# Altium footprint library diy-modules.PCBLIB: 111 footprints (part 7 of 7)
Each footprint in its own frame and in the unit in brackets; x right, y up, seen from the top. Pads: shape width x height; smd on the part's side, far side on the other; paste and mask are expansions set on the pad; w line width, h text height; cw(c..) or ccw(c..) is an arc to the next point about the centre after c.
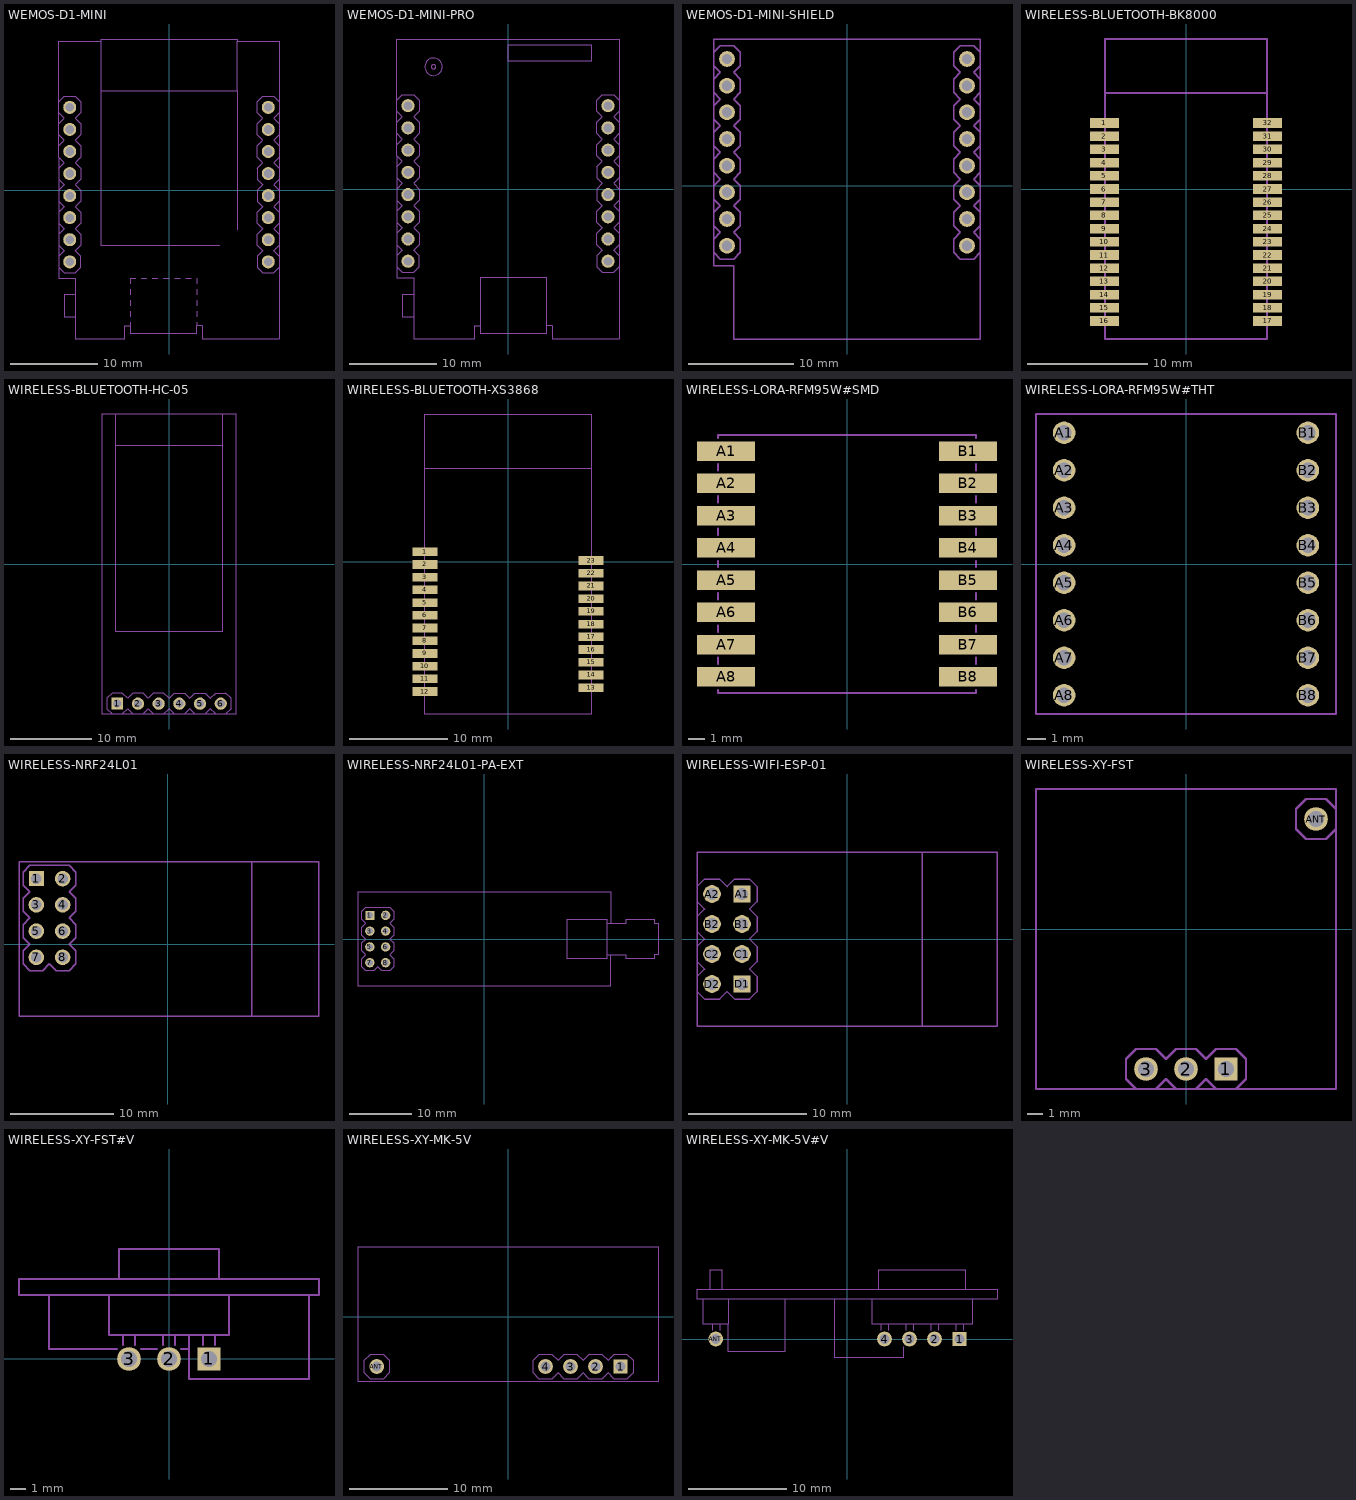
[diagram p6: the footprints below, top view; thin cyan lines are the x and y axes]

## WEMOS-D1-MINI [mm]
pads (16):
  round 1.5 / inner round 1.524 / far side round 1.5 hole 1: JP1.1(-11.43,9.525) JP1.2(-11.43,6.985) JP1.3(-11.43,4.445) JP1.4(-11.43,1.905) JP1.5(-11.43,-0.635) JP1.6(-11.43,-3.175) JP1.7(-11.43,-5.715) JP1.8(-11.43,-8.255) JP2.1(11.43,9.525) JP2.2(11.43,6.985) JP2.3(11.43,4.445) JP2.4(11.43,1.905) JP2.5(11.43,-0.635) JP2.6(11.43,-3.175) JP2.7(11.43,-5.715) JP2.8(11.43,-8.255)
Mechanical 22:
  lines w0.127: -12.7,-8.89 -12.065,-9.525 -10.795,-9.525 -10.16,-8.89 -10.16,-7.62 -10.795,-6.985 -10.16,-6.35 -10.16,-5.08 -10.795,-4.445 -10.16,-3.81 -10.16,-2.54 -10.795,-1.905 -10.16,-1.27 -10.16,0 -10.795,0.635 -10.16,1.27 -10.16,2.54 -10.795,3.175 -10.16,3.81 -10.16,5.08 -10.795,5.715 -10.16,6.35 -10.16,7.62 -10.795,8.255 -10.16,8.89 -10.16,10.16 -10.795,10.795 -12.065,10.795 -12.7,10.16 ; -12.7,-7.62 -12.065,-6.985 -12.7,-6.35 ; -12.7,-5.08 -12.065,-4.445 -12.7,-3.81 ; -12.7,-2.54 -12.065,-1.905 -12.7,-1.27 ; -12.7,0 -12.065,0.635 -12.7,1.27 ; -12.7,2.54 -12.065,3.175 -12.7,3.81 ; -4.445,-15.24 -4.445,-15.621 ; -4.445,-14.605 -4.445,-13.97 ; -4.445,-13.335 -4.445,-12.7 ; -4.445,-12.065 -4.445,-11.43 ; -4.445,-10.795 -4.445,-10.16 -3.81,-10.16 ; -3.175,-10.16 -2.54,-10.16 ; -1.905,-10.16 -1.27,-10.16 ; -0.635,-10.16 0,-10.16 ; 0.635,-10.16 1.27,-10.16 ; 1.905,-10.16 2.54,-10.16 ; 3.175,-15.24 3.175,-15.621 ; 3.175,-14.605 3.175,-13.97 ; 3.175,-13.335 3.175,-12.7 ; 3.175,-12.065 3.175,-11.43 ; 3.175,-10.795 3.175,-10.16 ; 5.842,-6.35 -7.874,-6.35 -7.874,11.43 ; 7.874,-4.572 7.874,11.43 ; 12.7,-8.89 12.065,-9.525 10.795,-9.525 10.16,-8.89 10.16,-7.62 10.795,-6.985 10.16,-6.35 10.16,-5.08 10.795,-4.445 10.16,-3.81 10.16,-2.54 10.795,-1.905 10.16,-1.27 10.16,0 10.795,0.635 10.16,1.27 10.16,2.54 10.795,3.175 10.16,3.81 10.16,5.08 10.795,5.715 10.16,6.35 10.16,7.62 10.795,8.255 10.16,8.89 10.16,10.16 10.795,10.795 12.065,10.795 12.7,10.16 ; 12.7,-7.62 12.065,-6.985 12.7,-6.35 ; 12.7,-5.08 12.065,-4.445 12.7,-3.81 ; 12.7,-2.54 12.065,-1.905 12.7,-1.27 ; 12.7,0 12.065,0.635 12.7,1.27 ; 12.7,2.54 12.065,3.175 12.7,3.81 ; -12.7,3.81 -12.7,5.08 ; -12.7,3.81 -12.7,-10.16 -10.795,-10.16 -10.795,-12.065 ; -12.7,5.08 -12.7,6.35 ; -12.7,5.08 -12.065,5.715 -12.7,6.35 ; -12.7,6.35 -12.7,7.62 ; -12.7,7.62 -12.7,8.89 ; -12.7,7.62 -12.065,8.255 -12.7,8.89 ; -12.7,8.89 -12.7,10.16 ; -12.7,10.16 -12.7,17.145 -7.874,17.145 ; -10.795,-14.605 -10.795,-12.065 ; -10.795,-14.605 -10.795,-17.145 -5.08,-17.145 -5.08,-15.621 -4.445,-15.621 ; -10.795,-14.605 -12.065,-14.605 -12.065,-12.065 -10.795,-12.065 ; -7.874,11.43 -7.874,17.145 ; -7.874,11.43 7.874,11.43 ; -7.874,17.145 -7.874,17.399 7.874,17.399 7.874,17.145 ; -4.445,-15.621 -4.445,-16.51 3.175,-16.51 3.175,-15.621 ; 3.175,-15.621 3.81,-15.621 3.81,-17.145 12.7,-17.145 12.7,3.81 ; 7.874,11.43 7.874,17.145 ; 7.874,17.145 12.7,17.145 12.7,10.16 ; 12.7,3.81 12.7,5.08 ; 12.7,5.08 12.7,6.35 ; 12.7,5.08 12.065,5.715 12.7,6.35 ; 12.7,6.35 12.7,7.62 ; 12.7,7.62 12.7,8.89 ; 12.7,7.62 12.065,8.255 12.7,8.89 ; 12.7,8.89 12.7,10.16

## WEMOS-D1-MINI-PRO [mm]
pads (16):
  round 1.5 / inner round 1.524 / far side round 1.5 hole 1: JP1.1(-11.43,9.525) JP1.2(-11.43,6.985) JP1.3(-11.43,4.445) JP1.4(-11.43,1.905) JP1.5(-11.43,-0.635) JP1.6(-11.43,-3.175) JP1.7(-11.43,-5.715) JP1.8(-11.43,-8.255) JP2.1(11.43,9.525) JP2.2(11.43,6.985) JP2.3(11.43,4.445) JP2.4(11.43,1.905) JP2.5(11.43,-0.635) JP2.6(11.43,-3.175) JP2.7(11.43,-5.715) JP2.8(11.43,-8.255)
Mechanical 22:
  circle w0.127: c-8.509,13.97 r0.25
  circle w0.127: c-8.509,13.97 r1
  lines w0.127: -12.7,-8.89 -12.065,-9.525 -10.795,-9.525 -10.16,-8.89 -10.16,-7.62 -10.795,-6.985 -10.16,-6.35 -10.16,-5.08 -10.795,-4.445 -10.16,-3.81 -10.16,-2.54 -10.795,-1.905 -10.16,-1.27 -10.16,0 -10.795,0.635 -10.16,1.27 -10.16,2.54 -10.795,3.175 -10.16,3.81 -10.16,5.08 -10.795,5.715 -10.16,6.35 -10.16,7.62 -10.795,8.255 -10.16,8.89 -10.16,10.16 -10.795,10.795 -12.065,10.795 -12.7,10.16 ; -12.7,-7.62 -12.065,-6.985 -12.7,-6.35 ; -12.7,-5.08 -12.065,-4.445 -12.7,-3.81 ; -12.7,-2.54 -12.065,-1.905 -12.7,-1.27 ; -12.7,0 -12.065,0.635 -12.7,1.27 ; -12.7,2.54 -12.065,3.175 -12.7,3.81 ; 12.7,-8.89 12.065,-9.525 10.795,-9.525 10.16,-8.89 10.16,-7.62 10.795,-6.985 10.16,-6.35 10.16,-5.08 10.795,-4.445 10.16,-3.81 10.16,-2.54 10.795,-1.905 10.16,-1.27 10.16,0 10.795,0.635 10.16,1.27 10.16,2.54 10.795,3.175 10.16,3.81 10.16,5.08 10.795,5.715 10.16,6.35 10.16,7.62 10.795,8.255 10.16,8.89 10.16,10.16 10.795,10.795 12.065,10.795 12.7,10.16 ; 12.7,-7.62 12.065,-6.985 12.7,-6.35 ; 12.7,-5.08 12.065,-4.445 12.7,-3.81 ; 12.7,-2.54 12.065,-1.905 12.7,-1.27 ; 12.7,0 12.065,0.635 12.7,1.27 ; 12.7,2.54 12.065,3.175 12.7,3.81 ; -12.7,3.81 -12.7,5.08 ; -12.7,3.81 -12.7,-10.16 -10.795,-10.16 -10.795,-12.065 ; -12.7,5.08 -12.7,6.35 ; -12.7,5.08 -12.065,5.715 -12.7,6.35 ; -12.7,6.35 -12.7,7.62 ; -12.7,7.62 -12.7,8.89 ; -12.7,7.62 -12.065,8.255 -12.7,8.89 ; -12.7,8.89 -12.7,10.16 ; -12.7,10.16 -12.7,17.145 12.7,17.145 12.7,10.16 ; -10.795,-14.605 -10.795,-12.065 ; -10.795,-14.605 -10.795,-17.145 -3.81,-17.145 -3.81,-15.621 -3.175,-15.621 ; -10.795,-14.605 -12.065,-14.605 -12.065,-12.065 -10.795,-12.065 ; -3.175,-15.621 -3.175,-10.16 4.445,-10.16 4.445,-15.621 ; -3.175,-15.621 -3.175,-16.51 4.445,-16.51 4.445,-15.621 ; 4.445,-15.621 5.08,-15.621 5.08,-17.145 12.7,-17.145 12.7,3.81 ; 12.7,3.81 12.7,5.08 ; 12.7,5.08 12.7,6.35 ; 12.7,5.08 12.065,5.715 12.7,6.35 ; 12.7,6.35 12.7,7.62 ; 12.7,7.62 12.7,8.89 ; 12.7,7.62 12.065,8.255 12.7,8.89 ; 12.7,8.89 12.7,10.16 ; 0,14.605 9.525,14.605 9.525,16.51 0,16.51 0,14.605

## WEMOS-D1-MINI-SHIELD [mm]
pads (16):
  round 1.5 / inner round 1.524 / far side round 1.5 hole 1: JP1.1(-11.43,12.065) JP1.2(-11.43,9.525) JP1.3(-11.43,6.985) JP1.4(-11.43,4.445) JP1.5(-11.43,1.905) JP1.6(-11.43,-0.635) JP1.7(-11.43,-3.175) JP1.8(-11.43,-5.715) JP2.1(11.43,12.065) JP2.2(11.43,9.525) JP2.3(11.43,6.985) JP2.4(11.43,4.445) JP2.5(11.43,1.905) JP2.6(11.43,-0.635) JP2.7(11.43,-3.175) JP2.8(11.43,-5.715)
Mechanical 22:
  lines w0.127: -12.7,-6.35 -12.065,-6.985 -10.795,-6.985 -10.16,-6.35 -10.16,-5.08 -10.795,-4.445 -10.16,-3.81 -10.16,-2.54 -10.795,-1.905 -10.16,-1.27 -10.16,0 -10.795,0.635 -10.16,1.27 -10.16,2.54 -10.795,3.175 -10.16,3.81 -10.16,5.08 -10.795,5.715 -10.16,6.35 -10.16,7.62 -10.795,8.255 -10.16,8.89 -10.16,10.16 -10.795,10.795 -10.16,11.43 -10.16,12.7 -10.795,13.335 -12.065,13.335 -12.7,12.7 ; -12.7,-5.08 -12.065,-4.445 -12.7,-3.81 ; -12.7,-2.54 -12.065,-1.905 -12.7,-1.27 ; -12.7,0 -12.065,0.635 -12.7,1.27 ; -12.7,2.54 -12.065,3.175 -12.7,3.81 ; -12.7,5.08 -12.065,5.715 -12.7,6.35 ; 12.7,-6.35 12.065,-6.985 10.795,-6.985 10.16,-6.35 10.16,-5.08 10.795,-4.445 10.16,-3.81 10.16,-2.54 10.795,-1.905 10.16,-1.27 10.16,0 10.795,0.635 10.16,1.27 10.16,2.54 10.795,3.175 10.16,3.81 10.16,5.08 10.795,5.715 10.16,6.35 10.16,7.62 10.795,8.255 10.16,8.89 10.16,10.16 10.795,10.795 10.16,11.43 10.16,12.7 10.795,13.335 12.065,13.335 12.7,12.7 ; 12.7,-5.08 12.065,-4.445 12.7,-3.81 ; 12.7,-2.54 12.065,-1.905 12.7,-1.27 ; 12.7,0 12.065,0.635 12.7,1.27 ; 12.7,2.54 12.065,3.175 12.7,3.81 ; 12.7,5.08 12.065,5.715 12.7,6.35 ; -12.7,6.35 -12.7,7.62 ; -12.7,6.35 -12.7,-7.62 -10.795,-7.62 -10.795,-14.605 12.7,-14.605 12.7,6.35 ; -12.7,7.62 -12.7,8.89 ; -12.7,7.62 -12.065,8.255 -12.7,8.89 ; -12.7,8.89 -12.7,10.16 ; -12.7,10.16 -12.7,11.43 ; -12.7,10.16 -12.065,10.795 -12.7,11.43 ; -12.7,11.43 -12.7,12.7 ; -12.7,12.7 -12.7,13.97 12.7,13.97 12.7,12.7 ; 12.7,6.35 12.7,7.62 ; 12.7,7.62 12.7,8.89 ; 12.7,7.62 12.065,8.255 12.7,8.89 ; 12.7,8.89 12.7,10.16 ; 12.7,10.16 12.7,11.43 ; 12.7,10.16 12.065,10.795 12.7,11.43 ; 12.7,11.43 12.7,12.7

## WIRELESS-BLUETOOTH-BK8000 [mil]
pads (32):
  rect 94.49x31.5 smd: 1(-267.72,216.54) 2(-267.72,173.23) 3(-267.72,129.92) 4(-267.72,86.61) 5(-267.72,43.31) 6(-267.72,0) 7(-267.72,-43.31) 8(-267.72,-86.61) 9(-267.72,-129.92) 10(-267.72,-173.23) 11(-267.72,-216.54) 12(-267.72,-259.84) 13(-267.72,-303.15) 14(-267.72,-346.46) 15(-267.72,-389.76) 16(-267.72,-433.07) 17(267.72,-433.07) 18(267.72,-389.76) 19(267.72,-346.46) 20(267.72,-303.15) 21(267.72,-259.84) 22(267.72,-216.54) 23(267.72,-173.23) 24(267.72,-129.92) 25(267.72,-86.61) 26(267.72,-43.31) 27(267.72,0) 28(267.72,43.31) 29(267.72,86.61) 30(267.72,129.92) 31(267.72,173.23) 32(267.72,216.54)
Mechanical 22:
  lines w5: -265.75,314.96 -265.75,-492.13 265.75,-492.13 265.75,314.96 ; -265.75,314.96 -265.75,492.13 265.75,492.13 265.75,314.96 ; -265.75,314.96 265.75,314.96

## WIRELESS-BLUETOOTH-HC-05 [mm]
pads (6):
  rect 1.452x1.452 / inner rect 1.524x1.524 / far side rect 1.452x1.452 hole 1: 1(-6.35,-17.145)
  round 1.5 / inner round 1.524 / far side round 1.5 hole 1: 2(-3.81,-17.145) 3(-1.27,-17.145) 4(1.27,-17.145) 5(3.81,-17.145) 6(6.35,-17.145)
Mechanical 22:
  lines w0.127: 0.635,-18.415 0,-17.78 -0.635,-18.415 ; 1.905,-18.415 2.54,-17.78 3.175,-18.415 ; 4.445,-18.415 5.08,-17.78 5.715,-18.415 ; 6.985,-18.415 7.62,-17.78 7.62,-16.51 6.985,-15.875 5.715,-15.875 5.08,-16.51 4.445,-15.875 3.175,-15.875 2.54,-16.51 1.905,-15.875 0.635,-15.875 0,-16.51 -0.635,-15.875 -1.905,-15.875 -2.54,-16.51 -3.175,-15.875 -4.445,-15.875 -5.08,-16.51 -5.715,-15.875 -6.985,-15.875 -7.62,-16.51 -7.62,-17.78 -6.985,-18.415 ; -6.985,-18.415 -8.255,-18.415 -8.255,18.415 -6.604,18.415 ; -6.985,-18.415 -5.715,-18.415 ; -6.604,14.605 -6.604,18.415 ; -6.604,14.605 -6.604,-8.255 6.604,-8.255 6.604,14.605 ; -6.604,14.605 6.604,14.605 ; -6.604,18.415 6.604,18.415 ; -5.715,-18.415 -4.445,-18.415 ; -5.715,-18.415 -5.08,-17.78 -4.445,-18.415 ; -4.445,-18.415 -3.175,-18.415 ; -3.175,-18.415 -1.905,-18.415 ; -3.175,-18.415 -2.54,-17.78 -1.905,-18.415 ; -1.905,-18.415 -0.635,-18.415 ; -0.635,-18.415 8.255,-18.415 8.255,18.415 6.604,18.415 ; 6.604,14.605 6.604,18.415

## WIRELESS-BLUETOOTH-XS3868 [mil]
pads (23):
  rect 100x35 smd: 1(-334.65,39.17) 2(-334.65,-12.01) 3(-334.65,-63.19) 4(-334.65,-114.37) 5(-334.65,-165.55) 6(-334.65,-216.73) 7(-334.65,-267.91) 8(-334.65,-319.09) 9(-334.65,-370.28) 10(-334.65,-421.46) 11(-334.65,-472.64) 12(-334.65,-523.82) 13(334.65,-508.07) 14(334.65,-456.89) 15(334.65,-405.71) 16(334.65,-354.53) 17(334.65,-303.35) 18(334.65,-252.17) 19(334.65,-200.98) 20(334.65,-149.8) 21(334.65,-98.62) 22(334.65,-47.44) 23(334.65,3.74)
Mechanical 22:
  lines w5: -334.65,375 -334.65,-614.37 334.65,-614.37 334.65,375 ; -334.65,375 -334.65,594.29 334.65,594.29 334.65,375 ; -334.65,375 334.65,375

## WIRELESS-LORA-RFM95W#SMD [mm]
pads (16):
  rect 3.6x1.2 smd: A1(-7.5,7) A2(-7.5,5) A3(-7.5,3) A4(-7.5,1) A5(-7.5,-1) A6(-7.5,-3) A7(-7.5,-5) A8(-7.5,-7) B1(7.5,7) B2(7.5,5) B3(7.5,3) B4(7.5,1) B5(7.5,-1) B6(7.5,-3) B7(7.5,-5) B8(7.5,-7)
Mechanical 22:
  lines w0.127: -8,-7.8 -8,-8 8,-8 8,-7.8 ; -8,-6.2 -8,-5.8 ; -8,-4.2 -8,-3.8 ; -8,-2.2 -8,-1.8 ; -8,-0.2 -8,0.2 ; -8,1.8 -8,2.2 ; -8,3.8 -8,4.2 ; -8,5.8 -8,6.2 ; -8,7.8 -8,8 8,8 8,7.8 ; 8,-6.2 8,-5.8 ; 8,-4.2 8,-3.8 ; 8,-2.2 8,-1.8 ; 8,-0.2 8,0.2 ; 8,1.8 8,2.2 ; 8,3.8 8,4.2 ; 8,5.8 8,6.2

## WIRELESS-LORA-RFM95W#THT [mil]
pads (16):
  round 47.25 / inner round 60 / far side round 47.25 hole 31.5: A1(-255.91,275.59) A2(-255.91,196.85) A3(-255.91,118.11) A4(-255.91,39.37) A5(-255.91,-39.37) A6(-255.91,-118.11) A7(-255.91,-196.85) A8(-255.91,-275.59) B1(255.91,275.59) B2(255.91,196.85) B3(255.91,118.11) B4(255.91,39.37) B5(255.91,-39.37) B6(255.91,-118.11) B7(255.91,-196.85) B8(255.91,-275.59)
Mechanical 22:
  lines w5: -314.96,-314.96 314.96,-314.96 314.96,314.96 -314.96,314.96 -314.96,-314.96

## WIRELESS-NRF24L01 [mm]
pads (8):
  rect 1.452x1.452 / inner rect 1.524x1.524 / far side rect 1.452x1.452 hole 1: 1(-12.7,6.35)
  round 1.5 / inner round 1.524 / far side round 1.5 hole 1: 2(-10.16,6.35) 3(-12.7,3.81) 4(-10.16,3.81) 5(-12.7,1.27) 6(-10.16,1.27) 7(-12.7,-1.27) 8(-10.16,-1.27)
Mechanical 22:
  lines w0.127: 8.128,-6.985 14.63,-6.985 14.63,8.001 8.128,8.001 ; 8.128,-6.985 -14.376,-6.985 -14.376,8.001 8.128,8.001 ; 8.128,-6.985 8.128,8.001 ; -13.97,-1.905 -13.335,-2.54 -12.065,-2.54 -11.43,-1.905 -10.795,-2.54 -9.525,-2.54 -8.89,-1.905 -8.89,-0.635 -9.525,0 -8.89,0.635 -8.89,1.905 -9.525,2.54 -8.89,3.175 -8.89,4.445 -9.525,5.08 -8.89,5.715 -8.89,6.985 -9.525,7.62 -13.335,7.62 -13.97,6.985 -13.97,5.715 -13.335,5.08 -13.97,4.445 -13.97,3.175 -13.335,2.54 -13.97,1.905 -13.97,0.635 -13.335,0 -13.97,-0.635 -13.97,-1.905

## WIRELESS-NRF24L01-PA-EXT [mm]
pads (8):
  rect 1.452x1.452 / inner rect 1.524x1.524 / far side rect 1.452x1.452 hole 1: 1(-18.415,3.81)
  round 1.5 / inner round 1.524 / far side round 1.5 hole 1: 2(-15.875,3.81) 3(-18.415,1.27) 4(-15.875,1.27) 5(-18.415,-1.27) 6(-15.875,-1.27) 7(-18.415,-3.81) 8(-15.875,-3.81)
Mechanical 22:
  lines w0.127: 19.685,-2.54 19.685,2.54 ; 19.685,-2.54 19.685,-3.175 13.335,-3.175 13.335,3.175 19.685,3.175 19.685,2.54 ; 19.685,-2.54 20.32,-2.54 ; 19.685,2.54 20.32,2.54 ; 20.32,-2.54 22.86,-2.54 22.86,-3.175 27.305,-3.175 27.305,-2.54 27.94,-2.54 27.94,2.54 27.305,2.54 27.305,3.175 22.86,3.175 22.86,2.54 20.32,2.54 ; 20.32,-2.54 20.32,-7.62 -20.32,-7.62 -20.32,7.62 20.32,7.62 20.32,2.54 ; -19.685,-4.445 -19.05,-5.08 -17.78,-5.08 -17.145,-4.445 -16.51,-5.08 -15.24,-5.08 -14.605,-4.445 -14.605,-3.175 -15.24,-2.54 -14.605,-1.905 -14.605,-0.635 -15.24,0 -14.605,0.635 -14.605,1.905 -15.24,2.54 -14.605,3.175 -14.605,4.445 -15.24,5.08 -19.05,5.08 -19.685,4.445 -19.685,3.175 -19.05,2.54 -19.685,1.905 -19.685,0.635 -19.05,0 -19.685,-0.635 -19.685,-1.905 -19.05,-2.54 -19.685,-3.175 -19.685,-4.445

## WIRELESS-WIFI-ESP-01 [mm]
pads (8):
  rect 1.452x1.452 / inner rect 1.524x1.524 / far side rect 1.452x1.452 hole 1: A1(-8.89,3.81) D1(-8.89,-3.81)
  round 1.5 / inner round 1.524 / far side round 1.5 hole 1: A2(-11.43,3.81) B1(-8.89,1.27) B2(-11.43,1.27) C1(-8.89,-1.27) C2(-11.43,-1.27) D2(-11.43,-3.81)
Mechanical 22:
  lines w0.127: -12.7,-4.445 -12.7,-7.366 6.35,-7.366 ; -12.7,-4.445 -12.7,-3.175 ; -12.7,-4.445 -12.065,-5.08 -10.795,-5.08 -10.16,-4.445 -9.525,-5.08 -8.255,-5.08 -7.62,-4.445 -7.62,-3.175 -8.255,-2.54 -7.62,-1.905 -7.62,-0.635 -8.255,0 -7.62,0.635 -7.62,1.905 -8.255,2.54 -7.62,3.175 -7.62,4.445 -8.255,5.08 -9.525,5.08 -10.16,4.445 -10.795,5.08 -12.065,5.08 -12.7,4.445 ; -12.7,-3.175 -12.7,-1.905 ; -12.7,-3.175 -12.065,-2.54 -12.7,-1.905 ; -12.7,-1.905 -12.7,-0.635 ; -12.7,-0.635 -12.7,0.635 ; -12.7,-0.635 -12.065,0 -12.7,0.635 ; -12.7,0.635 -12.7,1.905 ; -12.7,1.905 -12.7,3.175 ; -12.7,1.905 -12.065,2.54 -12.7,3.175 ; -12.7,3.175 -12.7,4.445 ; -12.7,4.445 -12.7,7.366 6.35,7.366 ; 6.35,-7.366 12.7,-7.366 12.7,7.366 6.35,7.366 ; 6.35,-7.366 6.35,7.366

## WIRELESS-XY-FST [mm]
pads (4):
  rect 1.452x1.452 / inner rect 1.524x1.524 / far side rect 1.452x1.452 hole 1: 1(2.54,-8.89)
  round 1.5 / inner round 1.524 / far side round 1.5 hole 1: 2(0,-8.89) 3(-2.54,-8.89) ANT(8.255,6.985)
Mechanical 22:
  lines w0.127: -3.175,-10.16 -3.81,-9.525 -3.81,-8.255 -3.175,-7.62 -1.905,-7.62 -1.27,-8.255 -0.635,-7.62 0.635,-7.62 1.27,-8.255 1.905,-7.62 3.175,-7.62 3.81,-8.255 3.81,-9.525 3.175,-10.16 ; -1.905,-10.16 -1.27,-9.525 -0.635,-10.16 ; 0.635,-10.16 1.27,-9.525 1.905,-10.16 ; 9.525,6.35 9.525,-10.16 -9.525,-10.16 -9.525,8.89 9.525,8.89 9.525,7.62 ; 9.525,6.35 9.525,7.62 ; 9.525,6.35 8.89,5.715 7.62,5.715 6.985,6.35 6.985,7.62 7.62,8.255 8.89,8.255 9.525,7.62

## WIRELESS-XY-FST#V [mm]
pads (3):
  rect 1.452x1.452 / inner rect 1.524x1.524 / far side rect 1.452x1.452 hole 1: 1(2.54,0)
  round 1.5 / inner round 1.524 / far side round 1.5 hole 1: 2(0,0) 3(-2.54,0)
Mechanical 22:
  lines w0.127: -3.302,0.635 -7.62,0.635 -7.62,4.064 ; -2.921,0.889 -2.921,1.524 ; -2.159,0.889 -2.159,1.524 ; -1.778,0.635 -0.762,0.635 ; -0.381,0.889 -0.381,1.524 ; 0.381,0.889 0.381,1.524 ; 0.762,0.635 1.27,0.635 ; 2.159,0.889 2.159,1.524 ; 2.921,0.889 2.921,1.524 ; -7.62,4.064 -3.81,4.064 ; -7.62,4.064 -9.525,4.064 -9.525,5.08 -3.175,5.08 ; -3.81,4.064 3.81,4.064 ; -3.81,4.064 -3.81,1.524 -2.921,1.524 ; -3.175,5.08 3.175,5.08 ; -3.175,5.08 -3.175,6.985 3.175,6.985 3.175,5.08 ; -2.921,1.524 -2.159,1.524 ; -2.159,1.524 -0.381,1.524 ; -0.381,1.524 0.381,1.524 ; 0.381,1.524 1.27,1.524 ; 1.27,0.635 1.27,-1.27 8.89,-1.27 8.89,4.064 ; 1.27,0.635 1.27,1.524 ; 1.27,1.524 2.159,1.524 ; 2.159,1.524 2.921,1.524 ; 2.921,1.524 3.81,1.524 3.81,4.064 ; 3.175,5.08 9.525,5.08 9.525,4.064 8.89,4.064 ; 3.81,4.064 8.89,4.064

## WIRELESS-XY-MK-5V [mm]
pads (5):
  rect 1.452x1.452 / inner rect 1.524x1.524 / far side rect 1.452x1.452 hole 1: 1(11.43,-5.08)
  round 1.5 / inner round 1.524 / far side round 1.5 hole 1: 2(8.89,-5.08) 3(6.35,-5.08) 4(3.81,-5.08) ANT(-13.335,-5.08)
Mechanical 22:
  lines w0.127: -15.24,-6.604 15.24,-6.604 15.24,7.112 -15.24,7.112 -15.24,-6.604 ; -14.605,-5.715 -13.97,-6.35 -12.7,-6.35 -12.065,-5.715 -12.065,-4.445 -12.7,-3.81 -13.97,-3.81 -14.605,-4.445 -14.605,-5.715 ; 2.54,-5.715 3.175,-6.35 4.445,-6.35 5.08,-5.715 5.715,-6.35 6.985,-6.35 7.62,-5.715 8.255,-6.35 9.525,-6.35 10.16,-5.715 10.795,-6.35 12.065,-6.35 12.7,-5.715 12.7,-4.445 12.065,-3.81 10.795,-3.81 10.16,-4.445 9.525,-3.81 8.255,-3.81 7.62,-4.445 6.985,-3.81 5.715,-3.81 5.08,-4.445 4.445,-3.81 3.175,-3.81 2.54,-4.445 2.54,-5.715

## WIRELESS-XY-MK-5V#V [mm]
pads (5):
  rect 1.452x1.452 / inner rect 1.524x1.524 / far side rect 1.452x1.452 hole 1: 1(11.43,0)
  round 1.5 / inner round 1.524 / far side round 1.5 hole 1: 2(8.89,0) 3(6.35,0) 4(3.81,0) ANT(-13.335,0)
Mechanical 22:
  lines w0.127: -13.716,0.889 -13.716,1.524 ; -12.954,0.889 -12.954,1.524 ; 3.429,0.889 3.429,1.524 ; 4.191,0.889 4.191,1.524 ; 5.715,-0.762 5.715,-1.905 -1.27,-1.905 -1.27,4.064 ; 5.969,0.889 5.969,1.524 ; 6.731,0.889 6.731,1.524 ; 8.509,0.889 8.509,1.524 ; 9.271,0.889 9.271,1.524 ; 11.049,0.889 11.049,1.524 ; 11.811,0.889 11.811,1.524 ; -14.605,4.064 -12.065,4.064 ; -14.605,4.064 -15.24,4.064 -15.24,5.08 -13.97,5.08 ; -14.605,4.064 -14.605,1.524 -13.716,1.524 ; -13.97,5.08 -12.7,5.08 ; -13.97,5.08 -13.97,6.985 -12.7,6.985 -12.7,5.08 ; -13.716,1.524 -12.954,1.524 ; -12.954,1.524 -12.065,1.524 ; -12.7,5.08 3.175,5.08 ; -12.065,1.524 -12.065,4.064 ; -12.065,1.524 -12.065,-1.27 -6.35,-1.27 -6.35,4.064 ; -12.065,4.064 -6.35,4.064 ; -6.35,4.064 -1.27,4.064 ; -1.27,4.064 2.54,4.064 ; 2.54,4.064 12.7,4.064 ; 2.54,4.064 2.54,1.524 3.429,1.524 ; 3.175,5.08 12.065,5.08 ; 3.175,5.08 3.175,6.985 12.065,6.985 12.065,5.08 ; 3.429,1.524 4.191,1.524 ; 4.191,1.524 5.969,1.524 ; 5.969,1.524 6.731,1.524 ; 6.731,1.524 8.509,1.524 ; 8.509,1.524 9.271,1.524 ; 9.271,1.524 11.049,1.524 ; 11.049,1.524 11.811,1.524 ; 11.811,1.524 12.7,1.524 12.7,4.064 ; 12.065,5.08 15.24,5.08 15.24,4.064 12.7,4.064